# Altium footprint library IDC_100_2x5_RA.PcbLib: 1 footprints
Each footprint in its own frame and in the unit in brackets; x right, y up, seen from the top. Pads: shape width x height; smd on the part's side, far side on the other; paste and mask are expansions set on the pad; w line width, h text height; cw(c..) or ccw(c..) is an arc to the next point about the centre after c.
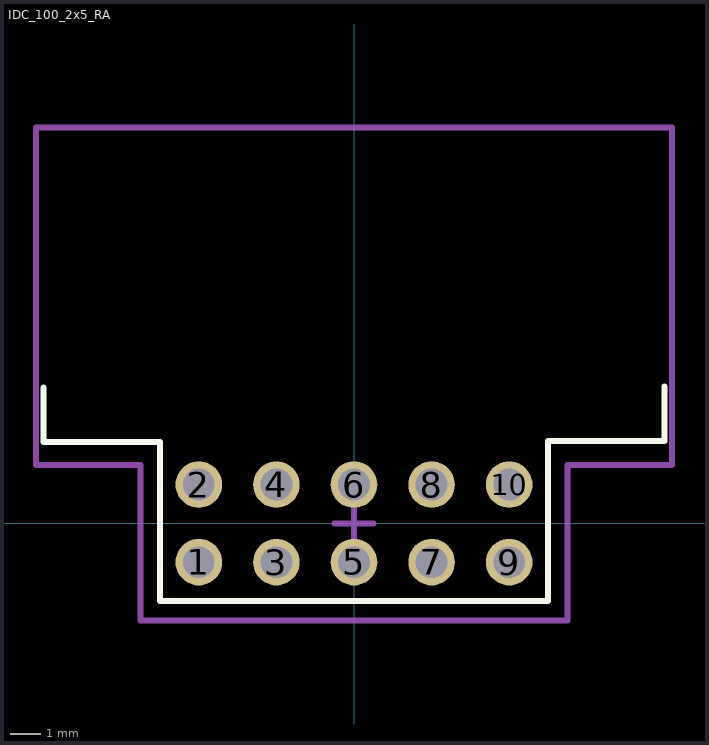
[diagram p0: the footprint, top view; thin cyan lines are the x and y axes]

## IDC_100_2x5_RA [mil]
pads (10):
  round 60 hole 41: 1(-200,-50) 2(-200,50) 3(-100,-50) 4(-100,50) 5(0,-50) 6(0,50) 7(100,-50) 8(100,50) 9(200,-50) 10(200,50)
Top Overlay:
  lines w7.87: -400,175 -400,105 -250,105 -250,-100 250,-100 ; 250,-99 250,106 400,106 400,176
Mechanical 15:
  lines w7.87: -25,0 25,0 ; 0,-25 0,25 ; -410,75 -410,510 410,510 410,75 275,75 275,-125 -275,-125 -275,75 -410,75